# Altium schematic symbol library SCH - POWER - LINEAR VREG - TI TPS71501-EP_DCK_5.SchLib: 1 symbol
Pins are listed as number, name and electrical type; pins without a type are passive.

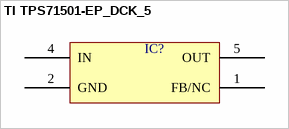
[diagram p0: symbol TI TPS71501-EP_DCK_5]

## TI TPS71501-EP_DCK_5
designator IC?  (value not drawn)
pins: 1 FB/NC, 2 GND, 4 IN, 5 OUT